# Altium integrated library diodes_schottky.IntLib: 27 symbols
Pins are listed as number, name and electrical type; pins without a type are passive.

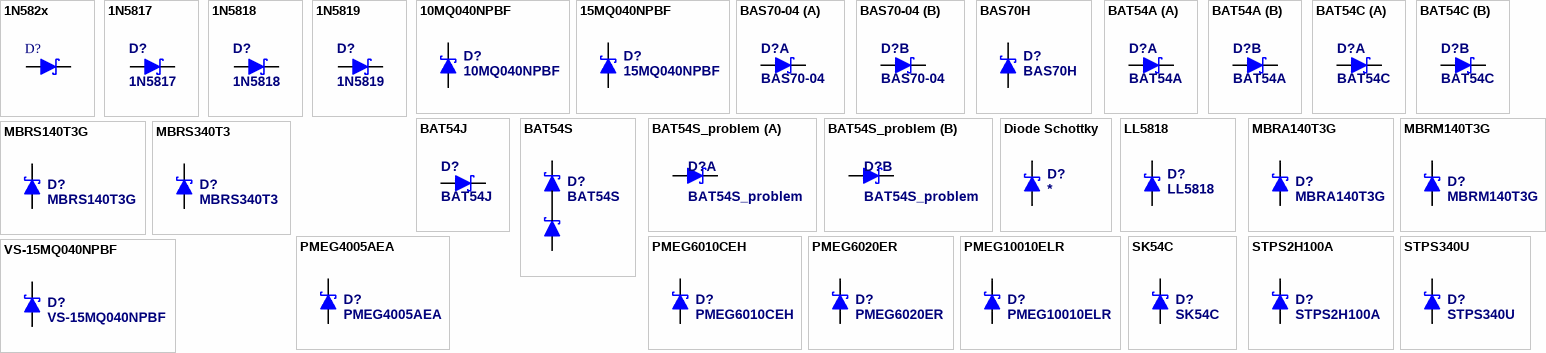
[diagram p0: symbols 1N582x to VS-15MQ040NPBF]

## 1N582x
designator D?
Schottky barrier rectifier 1A; Published: 26-Mar-2006
pins: 1 A, 2 K

## 1N5817
designator D?
Schottky Barrier Rectifier: 20V / 1A; Published: 26-Mar-2006
footprint DIO10.36-5.2x2.8 (Diode, Axial; Body 5.2 x 2.7 mm (LxDia. max), Lead Dia. 0.86 mm (max))
pins: 1 A, 2 K

## 1N5818
designator D?
Schottky Barrier Rectifier: 30V / 1A; Published: 26-Mar-2006
footprint DIO10.36-5.2x2.8 (Diode, Axial; Body 5.2 x 2.7 mm (LxDia. max), Lead Dia. 0.86 mm (max))
pins: 1 A, 2 K

## 1N5819
designator D?
Schottky Barrier Rectifier: 40V / 1A; Published: 26-Mar-2006
footprint DIO10.36-5.2x2.8 (Diode, Axial; Body 5.2 x 2.7 mm (LxDia. max), Lead Dia. 0.86 mm (max))
pins: 1 A, 2 K

## 10MQ040NPBF
designator D?
Schottky barrier rectifier: 40V, 1.5A, SMA; Published: 26-Mar-2006; Supplier 1: Farnell; Supplier 2: Farnell; Supplier 3: Farnell; Supplier 4: Farnell; Supplier 5: Farnell; Supplier 6: Farnell; Supplier Part Number 1: 2098035; Supplier Part Number 2: 8647801; Supplier Part Number 3: 1463228RL; Supplier Part Number 4: 8647801RL; Supplier Part Number 5: 1463228; Supplier Part Number 6: 1351271
footprint SMA
pins: 1 A, 2 K
1 alternate drawing of the same symbol

## 15MQ040NPBF
designator D?
Schottky barrier rectifier: 40V, 1.5A, SMA; Published: 26-Mar-2006; Supplier 1: Farnell; Supplier 2: Farnell; Supplier 3: Farnell; Supplier 4: Farnell; Supplier 5: Farnell; Supplier 6: Farnell; Supplier 7: Farnell; Supplier 8: Farnell; Supplier Part Number 1: 9101268RL; Supplier Part Number 2: 1463215; Supplier Part Number 3: 1651114RL; Supplier Part Number 4: 1562283; Supplier Part Number 5: 1651114; Supplier Part Number 6: 1463215RL; Supplier Part Number 7: 9101268; Supplier Part Number 8: 2078102
footprint SMA
pins: 1 A, 2 K
1 alternate drawing of the same symbol

## BAS70-04
designator D?
Double Schottky Diode: 70V, 70mA; Published: 08-Mar-2006; PackageReference: SOT-23
footprint SOT-23
footprint SOT-23W
part A pins: 1 A, 3 K1
part B pins: 2 K2, 3 A

## BAS70H
designator D?
Schottky Diode, 70V, 100mA; Current: 100mA; Voltage: 70V; Supplier 1: Farnell; Supplier 2: Farnell; Supplier 3: TME; Supplier Part Number 1: 1757750; Supplier Part Number 2: 1757750RL; Supplier Part Number 3: BAS70H
footprint SOD123 (SC76)
pins: 1 A, 2 K
1 alternate drawing of the same symbol

## BAT54A
designator D?
Double Schottky Diode: 30V, 200mA, Common Anode; Published: 08-Mar-2006; PackageReference: SOT-23
footprint SOT-23
footprint SOT-23W
part A pins: 1 K1, 3 A
part B pins: 2 K2, 3 A

## BAT54C
designator D?
Double Schottky Diode: 30V, 200mA, Common Cathode; Published: 08-Mar-2006; PackageReference: SOT-23
footprint SOT-23
footprint SOT-23W
part A pins: 1 A1, 3 K
part B pins: 2 A2, 3 K

## BAT54J
designator D?
Schottky Diode: 30V, 200mA; Published: 08-Mar-2006; PackageReference: SOD323; Supplier 1: Farnell; Supplier 2: TME; Supplier 3: Farnell; Supplier Part Number 1: 2438975; Supplier Part Number 2: BAT54J; Supplier Part Number 3: 2439054
footprint SOD323 (SC76)
pins: 1 A, 2 K

## BAT54S
designator D?
Double Schottky Diode: 30V, 200mA, Opposite; Published: 08-Mar-2006; PackageReference: SOT-23
footprint SOT-23
footprint SOT-23W
pins: 1 A, 2 K, 3 A/K

## BAT54S_problem
designator D?
Double Schottky Diode: 30V, 200mA, Opposite; Published: 08-Mar-2006; PackageReference: SOT-23
footprint SOT-23
footprint SOT-23W
part A pins: 1 A1, 3 K1
part B pins: 2 K2, 3 A2

## Diode Schottky
designator D?
Schottky Diode; Current: *; Voltage: *
footprint MINIMELF
footprint __SOD123
footprint SMC
footprint SMB (SMDA)
pins: 1 A, 2 K
1 alternate drawing of the same symbol

## LL5818
designator D?
Schottky switching diode, 30V, 1A, 550mV; Published: 26-Mar-2006
footprint MELF
pins: 1 A, 2 K
1 alternate drawing of the same symbol

## MBRA140T3G
designator D?
Schottky barrier rectifier: 40V, 1A; Published: 22-Nov-2006; PackageReference: SMB
footprint SMA
pins: 1 A, 2 K
1 alternate drawing of the same symbol

## MBRM140T3G
designator D?
Schottky Diode 40V/3A (Farnell 1459068); Current: *; Voltage: *; Supplier 1: Farnell; Supplier Part Number 1: 1459068
footprint DO-216AA
pins: 1 A, 2 K
1 alternate drawing of the same symbol

## MBRS140T3G
designator D?
Schottky barrier rectifier: 40V, 1A; Published: 22-Nov-2006; PackageReference: SMB; Supplier 1: TME; Supplier 2: Farnell; Supplier Part Number 1: MBRS140T3G; Supplier Part Number 2: 1467526
footprint SMB
pins: 1 A, 2 K
1 alternate drawing of the same symbol

## MBRS340T3
designator D?
Schottky barrier rectifier: 40V, 3A; Published: 30-Jun-2006; PackageReference: SMC; Supplier 1: TME; Supplier 2: Farnell; Supplier 3: Farnell; Supplier Part Number 1: MBRS340T3; Supplier Part Number 2: 2323112; Supplier Part Number 3: 2323120
footprint SMC
pins: 1 A, 2 K
1 alternate drawing of the same symbol

## PMEG4005AEA
designator D?
Schottky Diode 40V/0.5A; Current: *; Voltage: *; Supplier 1: Farnell; Supplier 2: TME; Supplier 3: Farnell; Supplier 4: Farnell; Supplier Part Number 1: 8738025; Supplier Part Number 2: PMEG4005AEA; Supplier Part Number 3: 8738025RL; Supplier Part Number 4: 2371111
footprint SOD323 (SC76)
pins: 1 A, 2 K
1 alternate drawing of the same symbol

## PMEG6010CEH
designator D?
Schottky Diode 60V/1A; Current: *; Voltage: *; Supplier 1: Farnell; Supplier 2: TME; Supplier 3: Farnell; Supplier Part Number 1: 1510694RL; Supplier Part Number 2: PMEG6010CEH; Supplier Part Number 3: 1510694
footprint SOD123F
pins: 1 A, 2 K
1 alternate drawing of the same symbol

## PMEG6020ER
designator D?
2A low VF Schottky barrier rectifier; Current: *; Voltage: *; Supplier 1: Farnell; Supplier 2: Farnell; Supplier 3: Farnell; Supplier Part Number 1: 2422628; Supplier Part Number 2: 1829206; Supplier Part Number 3: 1829206RL
footprint SOD123W
pins: 1 A, 2 K
1 alternate drawing of the same symbol

## PMEG10010ELR
designator D?
Schottky Diode 100V/1A; Current: *; Voltage: *; Supplier 1: Farnell; Supplier 2: Farnell; Supplier Part Number 1: 2498545; Supplier Part Number 2: 2498545RL
footprint SOD123W
pins: 1 A, 2 K
1 alternate drawing of the same symbol

## SK54C
designator D?
Schottky Diode: 40V, 5A; Published: 08-Mar-2006; PackageReference: SOT-23; Supplier 1: Farnell; Supplier Part Number 1: 1299291
footprint SMC
pins: 1 A, 2 K
1 alternate drawing of the same symbol

## STPS2H100A
designator D?
Schottky barrier rectifier: 100V, 2A; Published: 22-Nov-2006; PackageReference: SMB; Supplier 1: Farnell; Supplier 2: Farnell; Supplier 3: Farnell; Supplier 4: TME; Supplier Part Number 1: 1467551RL; Supplier Part Number 2: 1467551; Supplier Part Number 3: 2412947; Supplier Part Number 4: STPS2H100A
footprint SMA
pins: 1 A, 2 K
1 alternate drawing of the same symbol

## STPS340U
designator D?
Schottky barrier rectifier: 40V, 3A; Published: 22-Nov-2006; PackageReference: SMB; Supplier 1: TME; Supplier 2: Farnell; Supplier 3: Farnell; Supplier Part Number 1: STPS340U; Supplier Part Number 2: 9803548; Supplier Part Number 3: 2336879
footprint SMB
pins: 1 A, 2 K
1 alternate drawing of the same symbol

## VS-15MQ040NPBF
designator D?
Schottky Diode 40V/3A (Farnell 1651114); Current: *; Voltage: *
footprint SMA
pins: 1 A, 2 K
1 alternate drawing of the same symbol